# Altium integrated library Actel ACT 2.IntLib: 111 symbols (part 7 of 7)
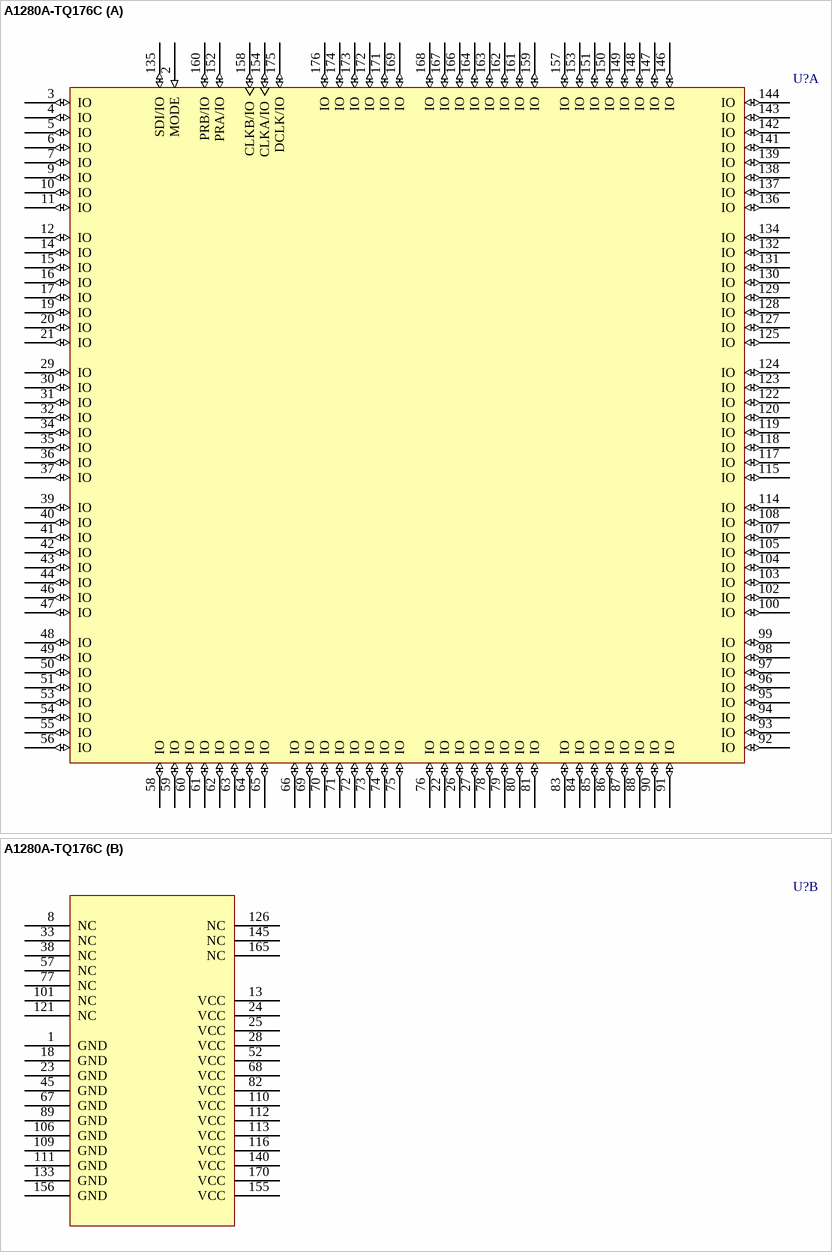
[diagram p69: symbol A1280A-TQ176C]

## A1280A-TQ176C
designator U?
ACT 2 Series 5V FPGA, 140 User I/Os, 176 pin TQFP, Standard Speed Grade, Commercial Grade; Published: 24-Nov-2000; LatestRevisionDate: 13-Apr-2006; LatestRevisionNote: IPC-7351 Footprint Added.; DatasheetVersion: v4.0.1, Dec-2000; PackageVersion: ver11.2, Nov-2009; PackageReference: TQ176; Publisher: Altium Limited; PackageDescription: 176-Pin Plastic Quad Flat Pack (TQ176); Code_JEDEC: MS-026-BCA; ComponentLink1Description: ACT 2 DataSheet; ComponentLink1URL: http://www.actel.com/documents/ACT2_DS.pdf; ComponentLink2Description: Package Mechanical Drawings; ComponentLink2URL: http://www.actel.com/documents/PckgMechDrwngs.pdf; ComponentLink3Description: ACT Documents; ComponentLink3URL: http://www.actel.com/products/legacy/default.aspx#docs; ComponentLink4Description: Actel.com Home; ComponentLink4URL: http://www.actel.com/
footprint TQ176_N (Thin QFP, 176-Leads, Body 24x24mm, Pitch 0.5mm, IPC Medium Density)
footprint TQ176_L (Thin QFP, 176-Leads, Body 24x24mm, Pitch 0.5mm, IPC High Density)
footprint TQ176_M (Thin QFP, 176-Leads, Body 24x24mm, Pitch 0.5mm, IPC Low Density)
part A pins: 2 MODE (in), 3 IO (io), 4 IO (io), 5 IO (io), 6 IO (io), 7 IO (io), 9 IO (io), 10 IO (io), 11 IO (io), 12 IO (io), 14 IO (io), 15 IO (io), 16 IO (io), 17 IO (io), 19 IO (io), 20 IO (io), 21 IO (io), 22 IO (io), 26 IO (io), 27 IO (io), 29 IO (io), 30 IO (io), 31 IO (io), 32 IO (io), 34 IO (io), 35 IO (io), 36 IO (io), 37 IO (io), 39 IO (io), 40 IO (io), 41 IO (io), 42 IO (io), 43 IO (io), 44 IO (io), 46 IO (io), 47 IO (io), 48 IO (io), 49 IO (io), 50 IO (io), 51 IO (io), 53 IO (io), 54 IO (io), 55 IO (io), 56 IO (io), 58 IO (io), 59 IO (io), 60 IO (io), 61 IO (io), 62 IO (io), 63 IO (io), 64 IO (io), 65 IO (io), 66 IO (io), 69 IO (io), 70 IO (io), 71 IO (io), 72 IO (io), 73 IO (io), 74 IO (io), 75 IO (io), 76 IO (io), 78 IO (io), 79 IO (io), 80 IO (io), 81 IO (io), 83 IO (io), 84 IO (io), 85 IO (io), 86 IO (io), 87 IO (io), 88 IO (io), 90 IO (io), 91 IO (io), 92 IO (io), 93 IO (io), 94 IO (io), 95 IO (io), 96 IO (io), 97 IO (io), 98 IO (io), 99 IO (io), 100 IO (io), 102 IO (io), 103 IO (io), 104 IO (io), 105 IO (io), 107 IO (io), 108 IO (io), 114 IO (io), 115 IO (io), 117 IO (io), 118 IO (io), 119 IO (io), 120 IO (io), 122 IO (io), 123 IO (io), 124 IO (io), 125 IO (io), 127 IO (io), 128 IO (io), 129 IO (io), 130 IO (io), 131 IO (io), 132 IO (io), 134 IO (io), 135 SDI/IO (io), 136 IO (io), 137 IO (io), 138 IO (io), 139 IO (io), 141 IO (io), 142 IO (io), 143 IO (io), 144 IO (io), 146 IO (io), 147 IO (io), 148 IO (io), 149 IO (io), 150 IO (io), 151 IO (io), 152 PRA/IO (io), 153 IO (io), 154 CLKA/IO (io), 157 IO (io), 158 CLKB/IO (io), 159 IO (io), 160 PRB/IO (io), 161 IO (io), 162 IO (io), 163 IO (io), 164 IO (io), 166 IO (io), 167 IO (io), 168 IO (io), 169 IO (io), 171 IO (io), 172 IO (io), 173 IO (io), 174 IO (io), 175 DCLK/IO (io), 176 IO (io)
part B pins: 1 GND (power), 8 NC, 13 VCC (power), 18 GND (power), 23 GND (power), 24 VCC (power), 25 VCC (power), 28 VCC (power), 33 NC, 38 NC, 45 GND (power), 52 VCC (power), 57 NC, 67 GND (power), 68 VCC (power), 77 NC, 82 VCC (power), 89 GND (power), 101 NC, 106 GND (power), 109 GND (power), 110 VCC (power), 111 GND (power), 112 VCC (power), 113 VCC (power), 116 VCC (power), 121 NC, 126 NC, 133 GND (power), 140 VCC (power), 145 NC, 155 VCC (power), 156 GND (power), 165 NC, 170 VCC (power)

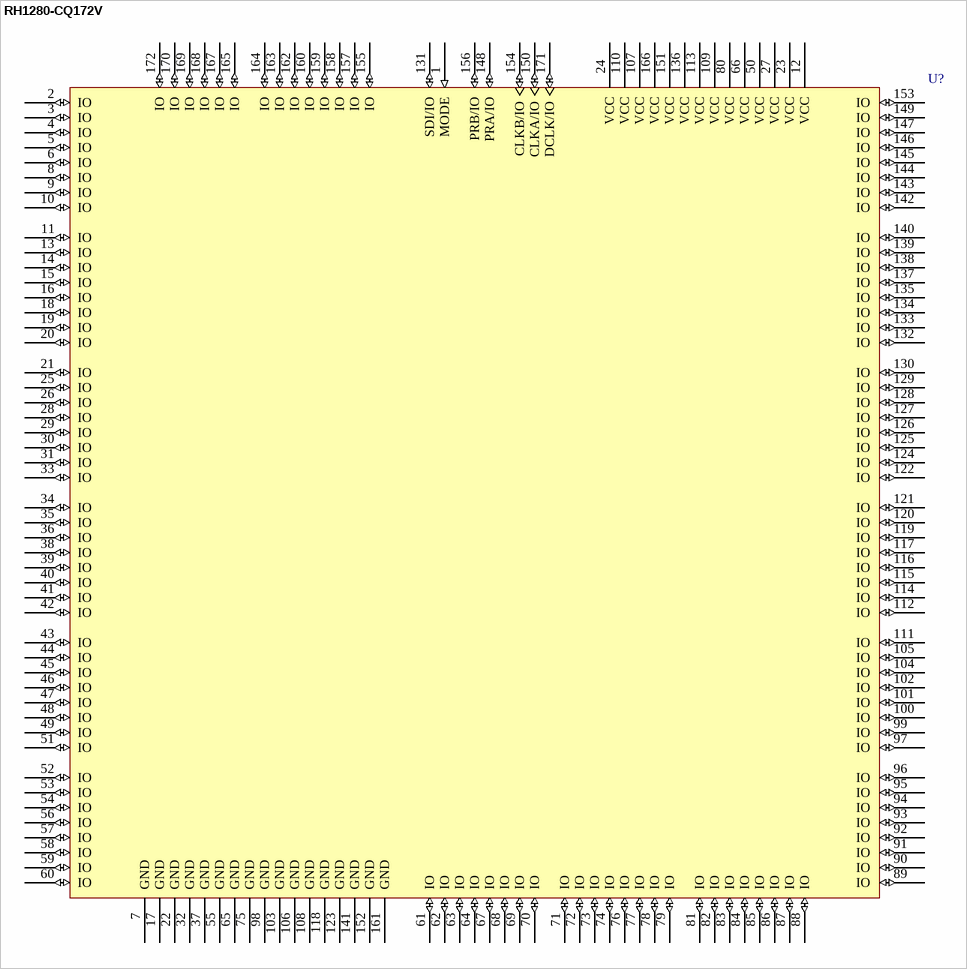
[diagram p59: symbol RH1280-CQ172V]

## RH1280-CQ172V
designator U?
ACT 2 Series, Radiation Hardened FPGA, 140 User I/Os, 172 pin CQFP, Standard Speed Grade, QML Qualified Grade; Component Availability: Discontinued; Published: 17-Sep-2003; LatestRevisionDate: 13-Apr-2006; LatestRevisionNote: IPC-7351 Footprint Added.; DatasheetVersion: v3.1, Apr-2005; PackageVersion: ver11.2, Nov-2009; PackageReference: CQ172; Publisher: Altium Limited; PackageDescription: 172-Pin Ceramic Quad Flat Pack (CQFP); Code_JEDEC: MO-113-AE; ComponentLink1Description: RadHard (ACT 2) DataSheet; ComponentLink1URL: http://www.actel.com/documents/RadHard_DS.pdf; ComponentLink2Description: Package Mechanical Drawings; ComponentLink2URL: http://www.actel.com/documents/PckgMechDrwngs.pdf; ComponentLink3Description: ACT Documents; ComponentLink3URL: http://www.actel.com/products/legacy/default.aspx#docs; ComponentLink4Description: Actel.com Home; ComponentLink4URL: http://www.actel.com/
footprint CQ172_N (CQFP, 172-Leads, Body 30x30mm; Pitch 0.635mm, Gullwing Leadform, IPC Medium Density)
footprint CQ172_L (CQFP, 172-Leads, Body 30x30mm; Pitch 0.635mm, Gullwing Leadform, IPC High Density)
footprint CQ172_M (CQFP, 172-Leads, Body 30x30mm; Pitch 0.635mm, Gullwing Leadform, IPC Low Density)
pins: 1 MODE (in), 2 IO (io), 3 IO (io), 4 IO (io), 5 IO (io), 6 IO (io), 7 GND (power), 8 IO (io), 9 IO (io), 10 IO (io), 11 IO (io), 12 VCC (power), 13 IO (io), 14 IO (io), 15 IO (io), 16 IO (io), 17 GND (power), 18 IO (io), 19 IO (io), 20 IO (io), 21 IO (io), 22 GND (power), 23 VCC (power), 24 VCC (power), 25 IO (io), 26 IO (io), 27 VCC (power), 28 IO (io), 29 IO (io), 30 IO (io), 31 IO (io), 32 GND (power), 33 IO (io), 34 IO (io), 35 IO (io), 36 IO (io), 37 GND (power), 38 IO (io), 39 IO (io), 40 IO (io), 41 IO (io), 42 IO (io), 43 IO (io), 44 IO (io), 45 IO (io), 46 IO (io), 47 IO (io), 48 IO (io), 49 IO (io), 50 VCC (power), 51 IO (io), 52 IO (io), 53 IO (io), 54 IO (io), 55 GND (power), 56 IO (io), 57 IO (io), 58 IO (io), 59 IO (io), 60 IO (io), 61 IO (io), 62 IO (io), 63 IO (io), 64 IO (io), 65 GND (power), 66 VCC (power), 67 IO (io), 68 IO (io), 69 IO (io), 70 IO (io), 71 IO (io), 72 IO (io), 73 IO (io), 74 IO (io), 75 GND (power), 76 IO (io), 77 IO (io), 78 IO (io), 79 IO (io), 80 VCC (power), 81 IO (io), 82 IO (io), 83 IO (io), 84 IO (io), 85 IO (io), 86 IO (io), 87 IO (io), 88 IO (io), 89 IO (io), 90 IO (io), 91 IO (io), 92 IO (io), 93 IO (io), 94 IO (io), 95 IO (io), 96 IO (io), 97 IO (io), 98 GND (power), 99 IO (io), 100 IO (io), 101 IO (io), 102 IO (io), 103 GND (power), 104 IO (io), 105 IO (io), 106 GND (power), 107 VCC (power), 108 GND (power), 109 VCC (power), 110 VCC (power), 111 IO (io), 112 IO (io), 113 VCC (power), 114 IO (io), 115 IO (io), 116 IO (io), 117 IO (io), 118 GND (power), 119 IO (io), 120 IO (io), 121 IO (io), 122 IO (io), 123 GND (power), 124 IO (io), 125 IO (io), 126 IO (io), 127 IO (io), 128 IO (io), 129 IO (io), 130 IO (io), 131 SDI/IO (io), 132 IO (io), 133 IO (io), 134 IO (io), 135 IO (io), 136 VCC (power), 137 IO (io), 138 IO (io), 139 IO (io), 140 IO (io), 141 GND (power), 142 IO (io), 143 IO (io), 144 IO (io), 145 IO (io), 146 IO (io), 147 IO (io), 148 PRA/IO (io), 149 IO (io), 150 CLKA/IO (io), 151 VCC (power), 152 GND (power), 153 IO (io), 154 CLKB/IO (io), 155 IO (io), 156 PRB/IO (io), 157 IO (io), 158 IO (io), 159 IO (io), 160 IO (io), 161 GND (power), 162 IO (io), 163 IO (io), 164 IO (io), 165 IO (io), 166 VCC (power), 167 IO (io), 168 IO (io), 169 IO (io), 170 IO (io), 171 DCLK/IO (io), 172 IO (io)

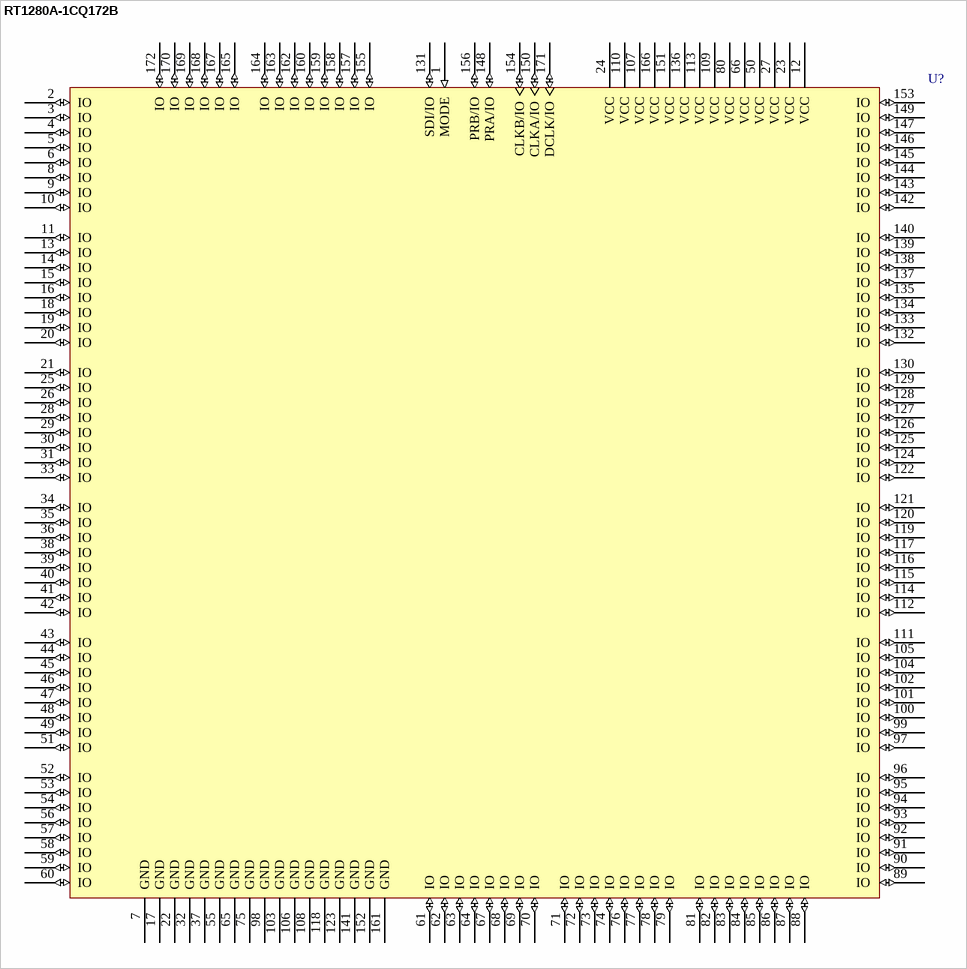
[diagram p60: symbol RT1280A-1CQ172B]

## RT1280A-1CQ172B
designator U?
ACT 2 Series, Radiation Tolerant FPGA, 140 User I/Os, 172 pin CQFP, Speed Grade 1, MIL-STD-883; Published: 17-Sep-2003; LatestRevisionDate: 13-Apr-2006; LatestRevisionNote: IPC-7351 Footprint Added.; DatasheetVersion: v3.1, Oct-2004; PackageVersion: ver11.2, Nov-2009; PackageReference: CQ172; Publisher: Altium Limited; PackageDescription: 172-Pin Ceramic Quad Flat Pack (CQFP); Code_JEDEC: MO-113-AE; ComponentLink1Description: RadTol (ACT 2) DataSheet; ComponentLink1URL: http://www.actel.com/documents/RadTolerant_DS.pdf; ComponentLink2Description: Package Mechanical Drawings; ComponentLink2URL: http://www.actel.com/documents/PckgMechDrwngs.pdf; ComponentLink3Description: ACT Documents; ComponentLink3URL: http://www.actel.com/products/legacy/default.aspx#docs; ComponentLink4Description: Actel.com Home; ComponentLink4URL: http://www.actel.com/
footprint CQ172_N (CQFP, 172-Leads, Body 30x30mm; Pitch 0.635mm, Gullwing Leadform, IPC Medium Density)
footprint CQ172_L (CQFP, 172-Leads, Body 30x30mm; Pitch 0.635mm, Gullwing Leadform, IPC High Density)
footprint CQ172_M (CQFP, 172-Leads, Body 30x30mm; Pitch 0.635mm, Gullwing Leadform, IPC Low Density)
pins: 1 MODE (in), 2 IO (io), 3 IO (io), 4 IO (io), 5 IO (io), 6 IO (io), 7 GND (power), 8 IO (io), 9 IO (io), 10 IO (io), 11 IO (io), 12 VCC (power), 13 IO (io), 14 IO (io), 15 IO (io), 16 IO (io), 17 GND (power), 18 IO (io), 19 IO (io), 20 IO (io), 21 IO (io), 22 GND (power), 23 VCC (power), 24 VCC (power), 25 IO (io), 26 IO (io), 27 VCC (power), 28 IO (io), 29 IO (io), 30 IO (io), 31 IO (io), 32 GND (power), 33 IO (io), 34 IO (io), 35 IO (io), 36 IO (io), 37 GND (power), 38 IO (io), 39 IO (io), 40 IO (io), 41 IO (io), 42 IO (io), 43 IO (io), 44 IO (io), 45 IO (io), 46 IO (io), 47 IO (io), 48 IO (io), 49 IO (io), 50 VCC (power), 51 IO (io), 52 IO (io), 53 IO (io), 54 IO (io), 55 GND (power), 56 IO (io), 57 IO (io), 58 IO (io), 59 IO (io), 60 IO (io), 61 IO (io), 62 IO (io), 63 IO (io), 64 IO (io), 65 GND (power), 66 VCC (power), 67 IO (io), 68 IO (io), 69 IO (io), 70 IO (io), 71 IO (io), 72 IO (io), 73 IO (io), 74 IO (io), 75 GND (power), 76 IO (io), 77 IO (io), 78 IO (io), 79 IO (io), 80 VCC (power), 81 IO (io), 82 IO (io), 83 IO (io), 84 IO (io), 85 IO (io), 86 IO (io), 87 IO (io), 88 IO (io), 89 IO (io), 90 IO (io), 91 IO (io), 92 IO (io), 93 IO (io), 94 IO (io), 95 IO (io), 96 IO (io), 97 IO (io), 98 GND (power), 99 IO (io), 100 IO (io), 101 IO (io), 102 IO (io), 103 GND (power), 104 IO (io), 105 IO (io), 106 GND (power), 107 VCC (power), 108 GND (power), 109 VCC (power), 110 VCC (power), 111 IO (io), 112 IO (io), 113 VCC (power), 114 IO (io), 115 IO (io), 116 IO (io), 117 IO (io), 118 GND (power), 119 IO (io), 120 IO (io), 121 IO (io), 122 IO (io), 123 GND (power), 124 IO (io), 125 IO (io), 126 IO (io), 127 IO (io), 128 IO (io), 129 IO (io), 130 IO (io), 131 SDI/IO (io), 132 IO (io), 133 IO (io), 134 IO (io), 135 IO (io), 136 VCC (power), 137 IO (io), 138 IO (io), 139 IO (io), 140 IO (io), 141 GND (power), 142 IO (io), 143 IO (io), 144 IO (io), 145 IO (io), 146 IO (io), 147 IO (io), 148 PRA/IO (io), 149 IO (io), 150 CLKA/IO (io), 151 VCC (power), 152 GND (power), 153 IO (io), 154 CLKB/IO (io), 155 IO (io), 156 PRB/IO (io), 157 IO (io), 158 IO (io), 159 IO (io), 160 IO (io), 161 GND (power), 162 IO (io), 163 IO (io), 164 IO (io), 165 IO (io), 166 VCC (power), 167 IO (io), 168 IO (io), 169 IO (io), 170 IO (io), 171 DCLK/IO (io), 172 IO (io)

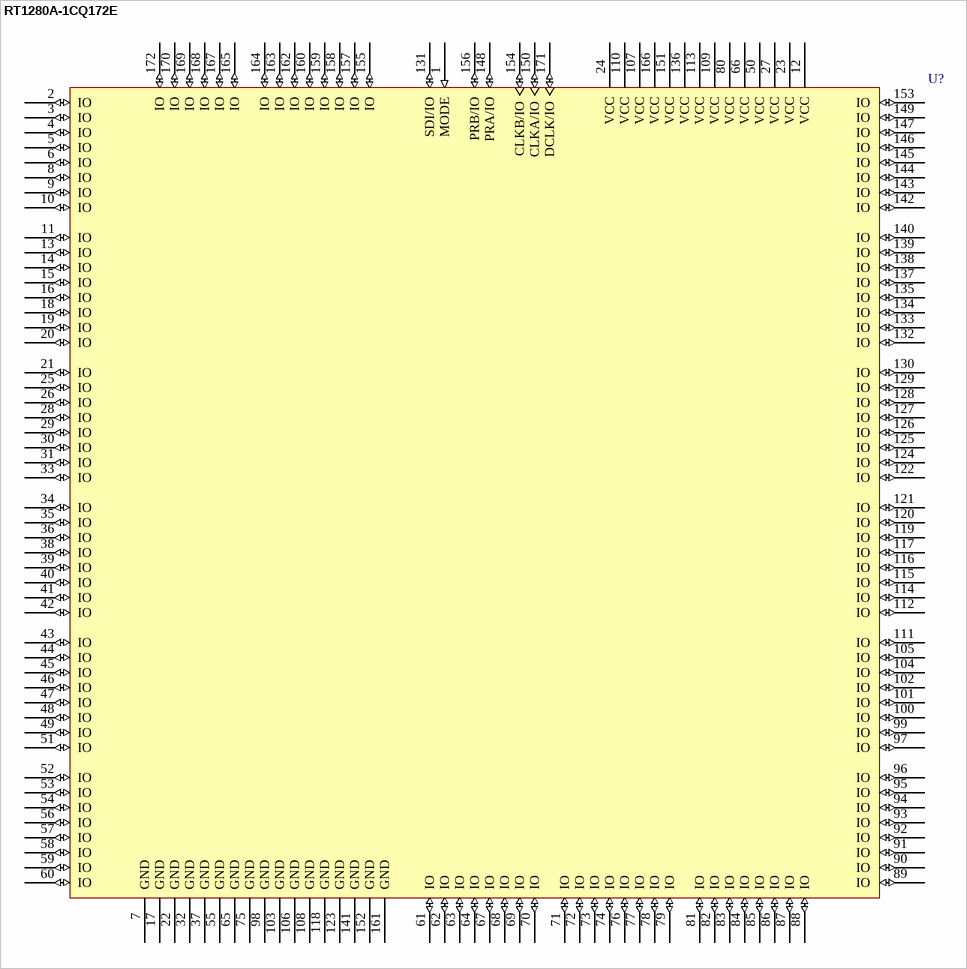
[diagram p61: symbol RT1280A-1CQ172E]

## RT1280A-1CQ172E
designator U?
ACT 2 Series, Radiation Tolerant FPGA, 140 User I/Os, 172 pin CQFP, Speed Grade 1, Extended Flow Grade; Published: 17-Sep-2003; LatestRevisionDate: 13-Apr-2006; LatestRevisionNote: IPC-7351 Footprint Added.; DatasheetVersion: v3.1, Oct-2004; PackageVersion: ver11.2, Nov-2009; PackageReference: CQ172; Publisher: Altium Limited; PackageDescription: 172-Pin Ceramic Quad Flat Pack (CQFP); Code_JEDEC: MO-113-AE; ComponentLink1Description: RadTol (ACT 2) DataSheet; ComponentLink1URL: http://www.actel.com/documents/RadTolerant_DS.pdf; ComponentLink2Description: Package Mechanical Drawings; ComponentLink2URL: http://www.actel.com/documents/PckgMechDrwngs.pdf; ComponentLink3Description: ACT Documents; ComponentLink3URL: http://www.actel.com/products/legacy/default.aspx#docs; ComponentLink4Description: Actel.com Home; ComponentLink4URL: http://www.actel.com/
footprint CQ172_N (CQFP, 172-Leads, Body 30x30mm; Pitch 0.635mm, Gullwing Leadform, IPC Medium Density)
footprint CQ172_L (CQFP, 172-Leads, Body 30x30mm; Pitch 0.635mm, Gullwing Leadform, IPC High Density)
footprint CQ172_M (CQFP, 172-Leads, Body 30x30mm; Pitch 0.635mm, Gullwing Leadform, IPC Low Density)
pins: 1 MODE (in), 2 IO (io), 3 IO (io), 4 IO (io), 5 IO (io), 6 IO (io), 7 GND (power), 8 IO (io), 9 IO (io), 10 IO (io), 11 IO (io), 12 VCC (power), 13 IO (io), 14 IO (io), 15 IO (io), 16 IO (io), 17 GND (power), 18 IO (io), 19 IO (io), 20 IO (io), 21 IO (io), 22 GND (power), 23 VCC (power), 24 VCC (power), 25 IO (io), 26 IO (io), 27 VCC (power), 28 IO (io), 29 IO (io), 30 IO (io), 31 IO (io), 32 GND (power), 33 IO (io), 34 IO (io), 35 IO (io), 36 IO (io), 37 GND (power), 38 IO (io), 39 IO (io), 40 IO (io), 41 IO (io), 42 IO (io), 43 IO (io), 44 IO (io), 45 IO (io), 46 IO (io), 47 IO (io), 48 IO (io), 49 IO (io), 50 VCC (power), 51 IO (io), 52 IO (io), 53 IO (io), 54 IO (io), 55 GND (power), 56 IO (io), 57 IO (io), 58 IO (io), 59 IO (io), 60 IO (io), 61 IO (io), 62 IO (io), 63 IO (io), 64 IO (io), 65 GND (power), 66 VCC (power), 67 IO (io), 68 IO (io), 69 IO (io), 70 IO (io), 71 IO (io), 72 IO (io), 73 IO (io), 74 IO (io), 75 GND (power), 76 IO (io), 77 IO (io), 78 IO (io), 79 IO (io), 80 VCC (power), 81 IO (io), 82 IO (io), 83 IO (io), 84 IO (io), 85 IO (io), 86 IO (io), 87 IO (io), 88 IO (io), 89 IO (io), 90 IO (io), 91 IO (io), 92 IO (io), 93 IO (io), 94 IO (io), 95 IO (io), 96 IO (io), 97 IO (io), 98 GND (power), 99 IO (io), 100 IO (io), 101 IO (io), 102 IO (io), 103 GND (power), 104 IO (io), 105 IO (io), 106 GND (power), 107 VCC (power), 108 GND (power), 109 VCC (power), 110 VCC (power), 111 IO (io), 112 IO (io), 113 VCC (power), 114 IO (io), 115 IO (io), 116 IO (io), 117 IO (io), 118 GND (power), 119 IO (io), 120 IO (io), 121 IO (io), 122 IO (io), 123 GND (power), 124 IO (io), 125 IO (io), 126 IO (io), 127 IO (io), 128 IO (io), 129 IO (io), 130 IO (io), 131 SDI/IO (io), 132 IO (io), 133 IO (io), 134 IO (io), 135 IO (io), 136 VCC (power), 137 IO (io), 138 IO (io), 139 IO (io), 140 IO (io), 141 GND (power), 142 IO (io), 143 IO (io), 144 IO (io), 145 IO (io), 146 IO (io), 147 IO (io), 148 PRA/IO (io), 149 IO (io), 150 CLKA/IO (io), 151 VCC (power), 152 GND (power), 153 IO (io), 154 CLKB/IO (io), 155 IO (io), 156 PRB/IO (io), 157 IO (io), 158 IO (io), 159 IO (io), 160 IO (io), 161 GND (power), 162 IO (io), 163 IO (io), 164 IO (io), 165 IO (io), 166 VCC (power), 167 IO (io), 168 IO (io), 169 IO (io), 170 IO (io), 171 DCLK/IO (io), 172 IO (io)

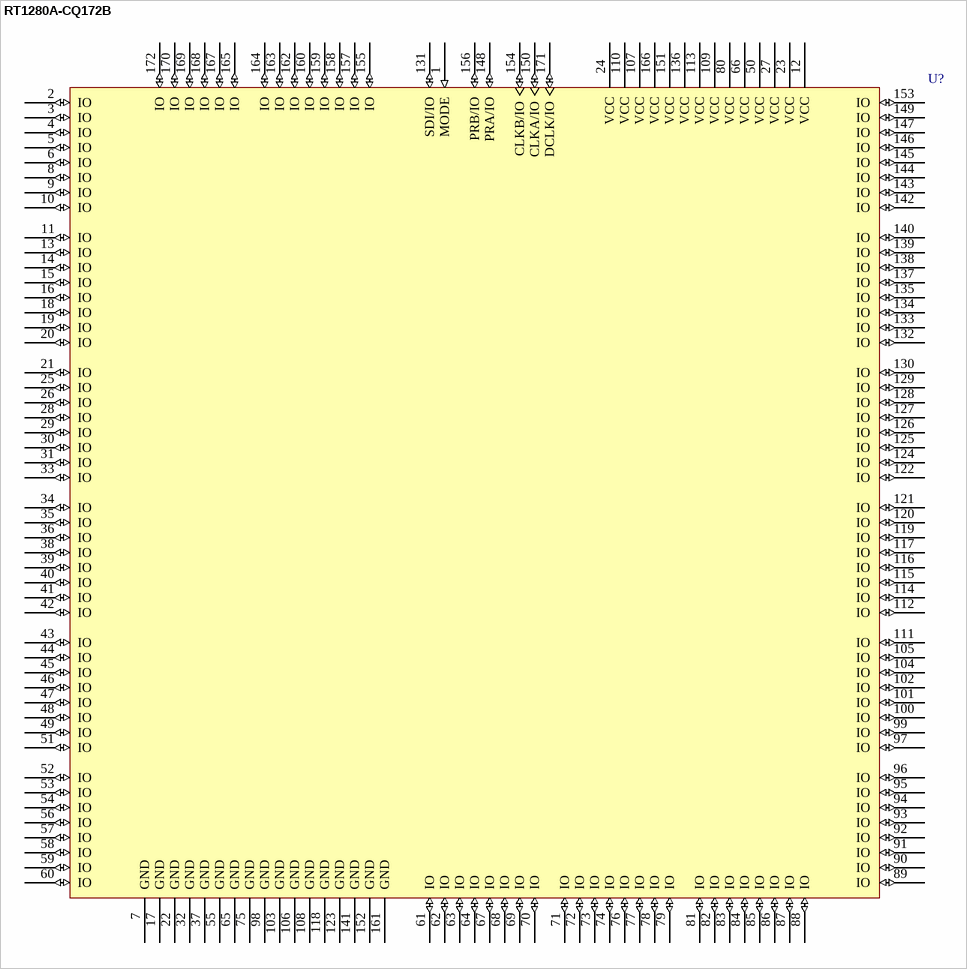
[diagram p62: symbol RT1280A-CQ172B]

## RT1280A-CQ172B
designator U?
ACT 2 Series, Radiation Tolerant FPGA, 140 User I/Os, 172 pin CQFP, Standard Speed Grade, MIL-STD-883; Published: 17-Sep-2003; LatestRevisionDate: 13-Apr-2006; LatestRevisionNote: IPC-7351 Footprint Added.; DatasheetVersion: v3.1, Oct-2004; PackageVersion: ver11.2, Nov-2009; PackageReference: CQ172; Publisher: Altium Limited; PackageDescription: 172-Pin Ceramic Quad Flat Pack (CQFP); Code_JEDEC: MO-113-AE; ComponentLink1Description: RadTol (ACT 2) DataSheet; ComponentLink1URL: http://www.actel.com/documents/RadTolerant_DS.pdf; ComponentLink2Description: Package Mechanical Drawings; ComponentLink2URL: http://www.actel.com/documents/PckgMechDrwngs.pdf; ComponentLink3Description: ACT Documents; ComponentLink3URL: http://www.actel.com/products/legacy/default.aspx#docs; ComponentLink4Description: Actel.com Home; ComponentLink4URL: http://www.actel.com/
footprint CQ172_N (CQFP, 172-Leads, Body 30x30mm; Pitch 0.635mm, Gullwing Leadform, IPC Medium Density)
footprint CQ172_L (CQFP, 172-Leads, Body 30x30mm; Pitch 0.635mm, Gullwing Leadform, IPC High Density)
footprint CQ172_M (CQFP, 172-Leads, Body 30x30mm; Pitch 0.635mm, Gullwing Leadform, IPC Low Density)
pins: 1 MODE (in), 2 IO (io), 3 IO (io), 4 IO (io), 5 IO (io), 6 IO (io), 7 GND (power), 8 IO (io), 9 IO (io), 10 IO (io), 11 IO (io), 12 VCC (power), 13 IO (io), 14 IO (io), 15 IO (io), 16 IO (io), 17 GND (power), 18 IO (io), 19 IO (io), 20 IO (io), 21 IO (io), 22 GND (power), 23 VCC (power), 24 VCC (power), 25 IO (io), 26 IO (io), 27 VCC (power), 28 IO (io), 29 IO (io), 30 IO (io), 31 IO (io), 32 GND (power), 33 IO (io), 34 IO (io), 35 IO (io), 36 IO (io), 37 GND (power), 38 IO (io), 39 IO (io), 40 IO (io), 41 IO (io), 42 IO (io), 43 IO (io), 44 IO (io), 45 IO (io), 46 IO (io), 47 IO (io), 48 IO (io), 49 IO (io), 50 VCC (power), 51 IO (io), 52 IO (io), 53 IO (io), 54 IO (io), 55 GND (power), 56 IO (io), 57 IO (io), 58 IO (io), 59 IO (io), 60 IO (io), 61 IO (io), 62 IO (io), 63 IO (io), 64 IO (io), 65 GND (power), 66 VCC (power), 67 IO (io), 68 IO (io), 69 IO (io), 70 IO (io), 71 IO (io), 72 IO (io), 73 IO (io), 74 IO (io), 75 GND (power), 76 IO (io), 77 IO (io), 78 IO (io), 79 IO (io), 80 VCC (power), 81 IO (io), 82 IO (io), 83 IO (io), 84 IO (io), 85 IO (io), 86 IO (io), 87 IO (io), 88 IO (io), 89 IO (io), 90 IO (io), 91 IO (io), 92 IO (io), 93 IO (io), 94 IO (io), 95 IO (io), 96 IO (io), 97 IO (io), 98 GND (power), 99 IO (io), 100 IO (io), 101 IO (io), 102 IO (io), 103 GND (power), 104 IO (io), 105 IO (io), 106 GND (power), 107 VCC (power), 108 GND (power), 109 VCC (power), 110 VCC (power), 111 IO (io), 112 IO (io), 113 VCC (power), 114 IO (io), 115 IO (io), 116 IO (io), 117 IO (io), 118 GND (power), 119 IO (io), 120 IO (io), 121 IO (io), 122 IO (io), 123 GND (power), 124 IO (io), 125 IO (io), 126 IO (io), 127 IO (io), 128 IO (io), 129 IO (io), 130 IO (io), 131 SDI/IO (io), 132 IO (io), 133 IO (io), 134 IO (io), 135 IO (io), 136 VCC (power), 137 IO (io), 138 IO (io), 139 IO (io), 140 IO (io), 141 GND (power), 142 IO (io), 143 IO (io), 144 IO (io), 145 IO (io), 146 IO (io), 147 IO (io), 148 PRA/IO (io), 149 IO (io), 150 CLKA/IO (io), 151 VCC (power), 152 GND (power), 153 IO (io), 154 CLKB/IO (io), 155 IO (io), 156 PRB/IO (io), 157 IO (io), 158 IO (io), 159 IO (io), 160 IO (io), 161 GND (power), 162 IO (io), 163 IO (io), 164 IO (io), 165 IO (io), 166 VCC (power), 167 IO (io), 168 IO (io), 169 IO (io), 170 IO (io), 171 DCLK/IO (io), 172 IO (io)

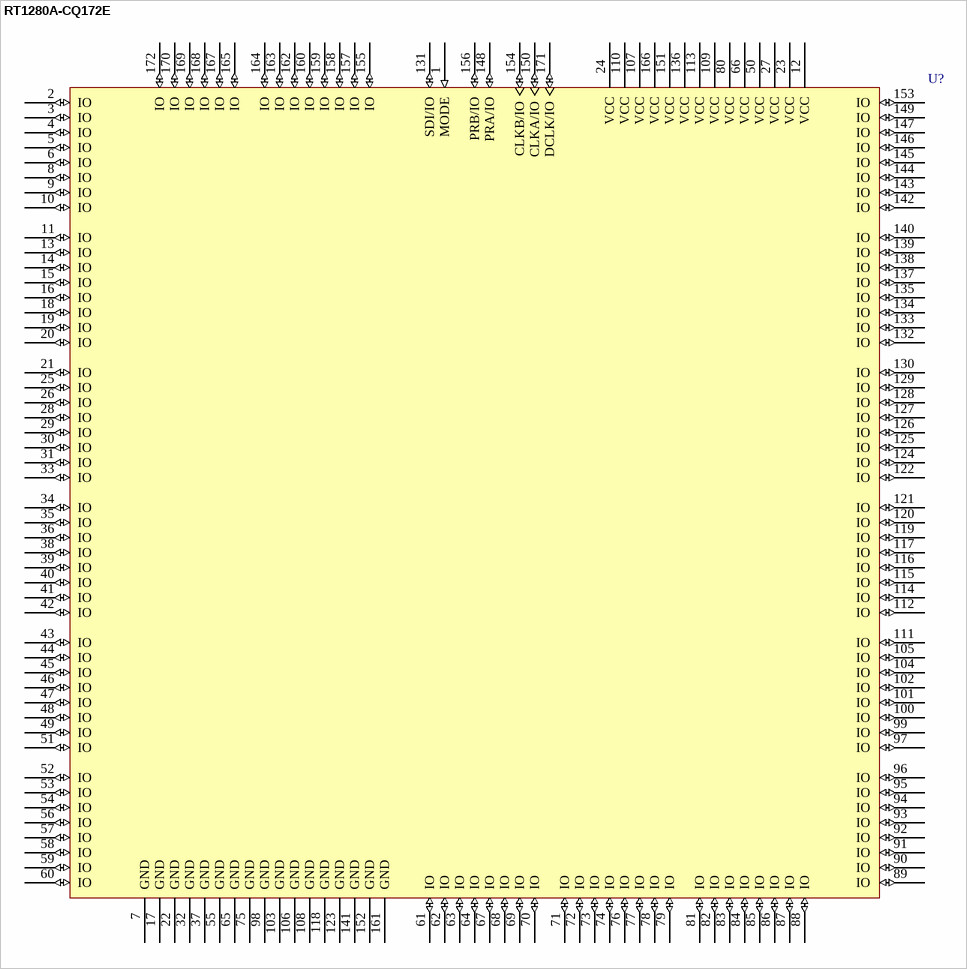
[diagram p63: symbol RT1280A-CQ172E]

## RT1280A-CQ172E
designator U?
ACT 2 Series, Radiation Tolerant FPGA, 140 User I/Os, 172 pin CQFP, Standard Speed Grade, Extended Flow Grade; Published: 17-Sep-2003; LatestRevisionDate: 13-Apr-2006; LatestRevisionNote: IPC-7351 Footprint Added.; DatasheetVersion: v3.1, Oct-2004; PackageVersion: ver11.2, Nov-2009; PackageReference: CQ172; Publisher: Altium Limited; PackageDescription: 172-Pin Ceramic Quad Flat Pack (CQFP); Code_JEDEC: MO-113-AE; ComponentLink1Description: RadTol (ACT 2) DataSheet; ComponentLink1URL: http://www.actel.com/documents/RadTolerant_DS.pdf; ComponentLink2Description: Package Mechanical Drawings; ComponentLink2URL: http://www.actel.com/documents/PckgMechDrwngs.pdf; ComponentLink3Description: ACT Documents; ComponentLink3URL: http://www.actel.com/products/legacy/default.aspx#docs; ComponentLink4Description: Actel.com Home; ComponentLink4URL: http://www.actel.com/
footprint CQ172_N (CQFP, 172-Leads, Body 30x30mm; Pitch 0.635mm, Gullwing Leadform, IPC Medium Density)
footprint CQ172_L (CQFP, 172-Leads, Body 30x30mm; Pitch 0.635mm, Gullwing Leadform, IPC High Density)
footprint CQ172_M (CQFP, 172-Leads, Body 30x30mm; Pitch 0.635mm, Gullwing Leadform, IPC Low Density)
pins: 1 MODE (in), 2 IO (io), 3 IO (io), 4 IO (io), 5 IO (io), 6 IO (io), 7 GND (power), 8 IO (io), 9 IO (io), 10 IO (io), 11 IO (io), 12 VCC (power), 13 IO (io), 14 IO (io), 15 IO (io), 16 IO (io), 17 GND (power), 18 IO (io), 19 IO (io), 20 IO (io), 21 IO (io), 22 GND (power), 23 VCC (power), 24 VCC (power), 25 IO (io), 26 IO (io), 27 VCC (power), 28 IO (io), 29 IO (io), 30 IO (io), 31 IO (io), 32 GND (power), 33 IO (io), 34 IO (io), 35 IO (io), 36 IO (io), 37 GND (power), 38 IO (io), 39 IO (io), 40 IO (io), 41 IO (io), 42 IO (io), 43 IO (io), 44 IO (io), 45 IO (io), 46 IO (io), 47 IO (io), 48 IO (io), 49 IO (io), 50 VCC (power), 51 IO (io), 52 IO (io), 53 IO (io), 54 IO (io), 55 GND (power), 56 IO (io), 57 IO (io), 58 IO (io), 59 IO (io), 60 IO (io), 61 IO (io), 62 IO (io), 63 IO (io), 64 IO (io), 65 GND (power), 66 VCC (power), 67 IO (io), 68 IO (io), 69 IO (io), 70 IO (io), 71 IO (io), 72 IO (io), 73 IO (io), 74 IO (io), 75 GND (power), 76 IO (io), 77 IO (io), 78 IO (io), 79 IO (io), 80 VCC (power), 81 IO (io), 82 IO (io), 83 IO (io), 84 IO (io), 85 IO (io), 86 IO (io), 87 IO (io), 88 IO (io), 89 IO (io), 90 IO (io), 91 IO (io), 92 IO (io), 93 IO (io), 94 IO (io), 95 IO (io), 96 IO (io), 97 IO (io), 98 GND (power), 99 IO (io), 100 IO (io), 101 IO (io), 102 IO (io), 103 GND (power), 104 IO (io), 105 IO (io), 106 GND (power), 107 VCC (power), 108 GND (power), 109 VCC (power), 110 VCC (power), 111 IO (io), 112 IO (io), 113 VCC (power), 114 IO (io), 115 IO (io), 116 IO (io), 117 IO (io), 118 GND (power), 119 IO (io), 120 IO (io), 121 IO (io), 122 IO (io), 123 GND (power), 124 IO (io), 125 IO (io), 126 IO (io), 127 IO (io), 128 IO (io), 129 IO (io), 130 IO (io), 131 SDI/IO (io), 132 IO (io), 133 IO (io), 134 IO (io), 135 IO (io), 136 VCC (power), 137 IO (io), 138 IO (io), 139 IO (io), 140 IO (io), 141 GND (power), 142 IO (io), 143 IO (io), 144 IO (io), 145 IO (io), 146 IO (io), 147 IO (io), 148 PRA/IO (io), 149 IO (io), 150 CLKA/IO (io), 151 VCC (power), 152 GND (power), 153 IO (io), 154 CLKB/IO (io), 155 IO (io), 156 PRB/IO (io), 157 IO (io), 158 IO (io), 159 IO (io), 160 IO (io), 161 GND (power), 162 IO (io), 163 IO (io), 164 IO (io), 165 IO (io), 166 VCC (power), 167 IO (io), 168 IO (io), 169 IO (io), 170 IO (io), 171 DCLK/IO (io), 172 IO (io)